# Altium footprint library LED_0603_Wurth.PcbLib: 1 footprints
Each footprint in its own frame and in the unit in brackets; x right, y up, seen from the top. Pads: shape width x height; smd on the part's side, far side on the other; paste and mask are expansions set on the pad; w line width, h text height; cw(c..) or ccw(c..) is an arc to the next point about the centre after c.
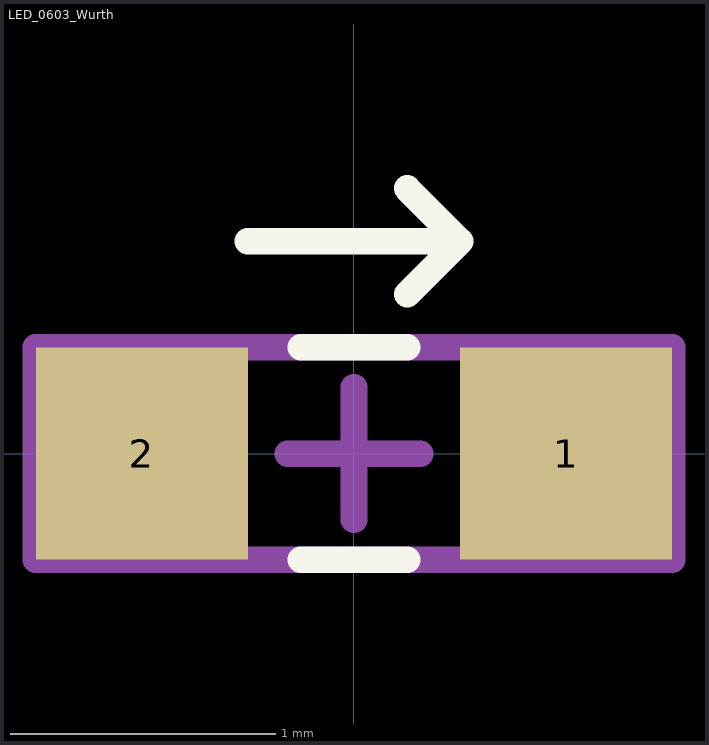
[diagram p0: the footprint, top view; thin cyan lines are the x and y axes]

## LED_0603_Wurth [mm]
pads (2):
  rect 0.8x0.8 smd mask+0: 1(0.8,0) 2(-0.8,0)
Top Overlay:
  lines w0.1: -0.4,0.8 0.4,0.8 ; -0.2,-0.4 0.2,-0.4 ; -0.2,0.4 0.2,0.4 ; 0.2,0.6 0.4,0.8 ; 0.2,1 0.4,0.8 ; 0.4,0.8 0.4,0.8
Mechanical 13:
  lines w0.1: -1.2,-0.4 -1.2,0.4 -0.3,0.4 1.2,0.4 1.2,-0.4 -1.2,-0.4
Mechanical 15:
  lines w0.1: -0.25,0 0,0 ; 0,-0.25 0,0 ; 0,0.25 0,0 ; 0.25,0 0,0
3D body "LED Green SMD 0603 Würth.stp": height 0.41, standoff 0.01, extent -0.8,-0.4 0.8,0.4